# Altium schematic symbol library CPLD_Microchip.SchLib: 7 symbols
Pins are listed as number, name and electrical type; pins without a type are passive.

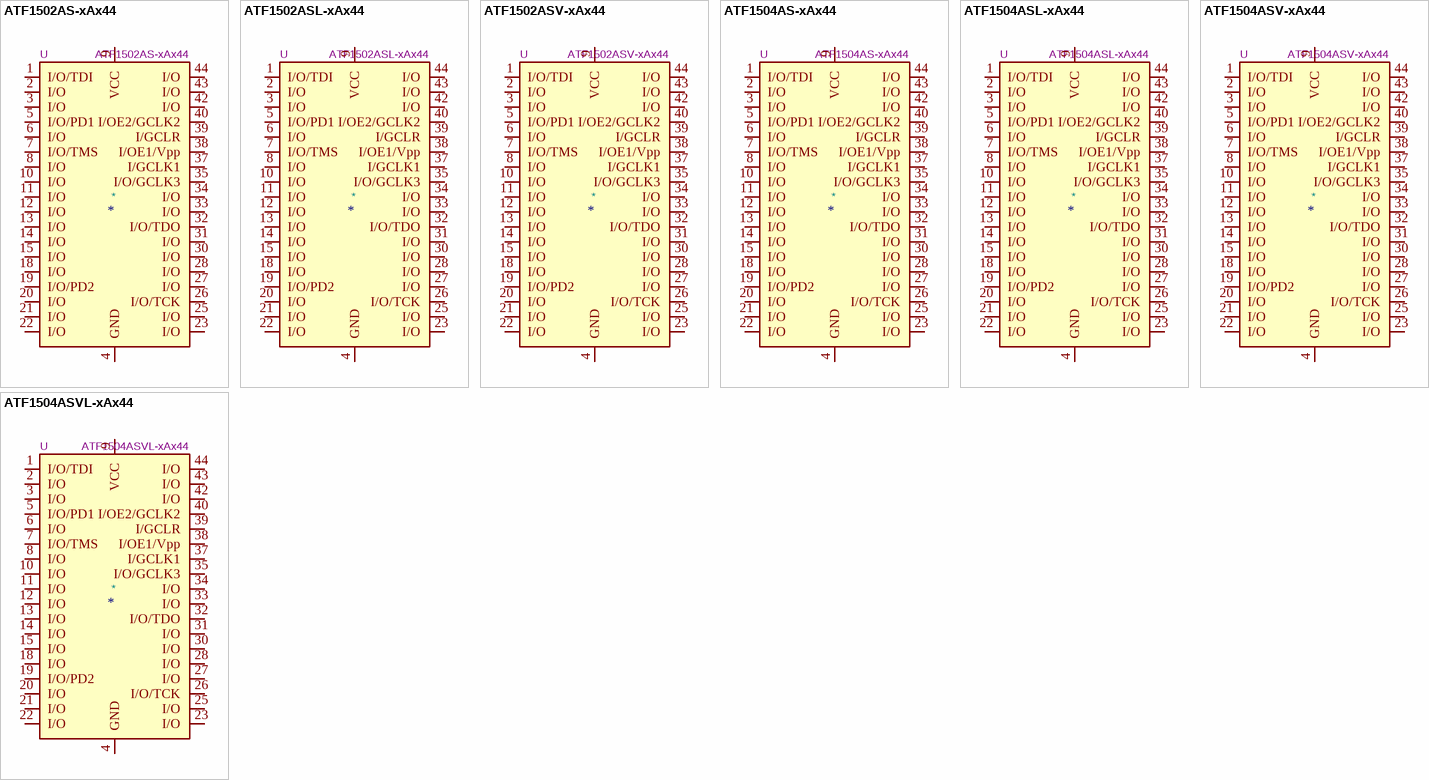
[diagram p0: symbols ATF1502AS-xAx44 to ATF1504ASVL-xAx44]

## ATF1502AS-xAx44
designator *  value ATF1502AS-xAx44  Reference: U
ki_keywords: CPLD; ki_description: Microchip CPLD, 32 Macrocell, 5 V, TQFP-44; ki_fp_filters: TQFP*10x10mm*P0.8mm*; Footprint: Package_QFP:TQFP-44_10x10mm_P0.8mm; Datasheet: http://ww1.microchip.com/downloads/en/DeviceDoc/Atmel-0995-CPLD-ATF1502AS(L)-Datasheet.pdf
pins: 1 I/O/TDI, 2 I/O, 3 I/O, 4 GND, 5 I/O/PD1, 6 I/O, 7 I/O/TMS, 8 I/O, 9 VCC, 10 I/O, 11 I/O, 12 I/O, 13 I/O, 14 I/O, 15 I/O, 16 GND hidden, 17 VCC hidden, 18 I/O, 19 I/O/PD2, 20 I/O, 21 I/O, 22 I/O, 23 I/O, 24 GND hidden, 25 I/O, 26 I/O/TCK, 27 I/O, 28 I/O, 29 VCC hidden, 30 I/O, 31 I/O, 32 I/O/TDO, 33 I/O, 34 I/O, 35 I/O/GCLK3, 36 GND hidden, 37 I/GCLK1, 38 I/OE1/Vpp, 39 I/GCLR, 40 I/OE2/GCLK2, 41 VCC hidden, 42 I/O, 43 I/O, 44 I/O

## ATF1502ASL-xAx44
designator *  value ATF1502ASL-xAx44  Reference: U
ki_keywords: CPLD; ki_description: Microchip CPLD, 32 Macrocell, 5 V, Low Power, TQFP-44; ki_fp_filters: TQFP*10x10mm*P0.8mm*; Footprint: Package_QFP:TQFP-44_10x10mm_P0.8mm; Datasheet: http://ww1.microchip.com/downloads/en/DeviceDoc/Atmel-0995-CPLD-ATF1502AS(L)-Datasheet.pdf
pins: 1 I/O/TDI, 2 I/O, 3 I/O, 4 GND, 5 I/O/PD1, 6 I/O, 7 I/O/TMS, 8 I/O, 9 VCC, 10 I/O, 11 I/O, 12 I/O, 13 I/O, 14 I/O, 15 I/O, 16 GND hidden, 17 VCC hidden, 18 I/O, 19 I/O/PD2, 20 I/O, 21 I/O, 22 I/O, 23 I/O, 24 GND hidden, 25 I/O, 26 I/O/TCK, 27 I/O, 28 I/O, 29 VCC hidden, 30 I/O, 31 I/O, 32 I/O/TDO, 33 I/O, 34 I/O, 35 I/O/GCLK3, 36 GND hidden, 37 I/GCLK1, 38 I/OE1/Vpp, 39 I/GCLR, 40 I/OE2/GCLK2, 41 VCC hidden, 42 I/O, 43 I/O, 44 I/O

## ATF1502ASV-xAx44
designator *  value ATF1502ASV-xAx44  Reference: U
ki_keywords: CPLD; ki_description: Microchip CPLD, 32 Macrocell, 3.3 V, TQFP-44; ki_fp_filters: TQFP*10x10mm*P0.8mm*; Footprint: Package_QFP:TQFP-44_10x10mm_P0.8mm; Datasheet: http://ww1.microchip.com/downloads/en/DeviceDoc/doc1615.pdf
pins: 1 I/O/TDI, 2 I/O, 3 I/O, 4 GND, 5 I/O/PD1, 6 I/O, 7 I/O/TMS, 8 I/O, 9 VCC, 10 I/O, 11 I/O, 12 I/O, 13 I/O, 14 I/O, 15 I/O, 16 GND hidden, 17 VCC hidden, 18 I/O, 19 I/O/PD2, 20 I/O, 21 I/O, 22 I/O, 23 I/O, 24 GND hidden, 25 I/O, 26 I/O/TCK, 27 I/O, 28 I/O, 29 VCC hidden, 30 I/O, 31 I/O, 32 I/O/TDO, 33 I/O, 34 I/O, 35 I/O/GCLK3, 36 GND hidden, 37 I/GCLK1, 38 I/OE1/Vpp, 39 I/GCLR, 40 I/OE2/GCLK2, 41 VCC hidden, 42 I/O, 43 I/O, 44 I/O

## ATF1504AS-xAx44
designator *  value ATF1504AS-xAx44  Reference: U
ki_keywords: CPLD; ki_description: Microchip CPLD, 64 Macrocell, 5 V, TQFP-44; ki_fp_filters: TQFP*10x10mm*P0.8mm*; Footprint: Package_QFP:TQFP-44_10x10mm_P0.8mm; Datasheet: http://ww1.microchip.com/downloads/en/DeviceDoc/Atmel-0950-CPLD-ATF1504AS(L)-Datasheet.pdf
pins: 1 I/O/TDI, 2 I/O, 3 I/O, 4 GND, 5 I/O/PD1, 6 I/O, 7 I/O/TMS, 8 I/O, 9 VCC, 10 I/O, 11 I/O, 12 I/O, 13 I/O, 14 I/O, 15 I/O, 16 GND hidden, 17 VCC hidden, 18 I/O, 19 I/O/PD2, 20 I/O, 21 I/O, 22 I/O, 23 I/O, 24 GND hidden, 25 I/O, 26 I/O/TCK, 27 I/O, 28 I/O, 29 VCC hidden, 30 I/O, 31 I/O, 32 I/O/TDO, 33 I/O, 34 I/O, 35 I/O/GCLK3, 36 GND hidden, 37 I/GCLK1, 38 I/OE1/Vpp, 39 I/GCLR, 40 I/OE2/GCLK2, 41 VCC hidden, 42 I/O, 43 I/O, 44 I/O

## ATF1504ASL-xAx44
designator *  value ATF1504ASL-xAx44  Reference: U
ki_keywords: CPLD; ki_description: Microchip CPLD, 64 Macrocell, 5 V, Low Power, TQFP-44; ki_fp_filters: TQFP*10x10mm*P0.8mm*; Footprint: Package_QFP:TQFP-44_10x10mm_P0.8mm; Datasheet: http://ww1.microchip.com/downloads/en/DeviceDoc/Atmel-0950-CPLD-ATF1504AS(L)-Datasheet.pdf
pins: 1 I/O/TDI, 2 I/O, 3 I/O, 4 GND, 5 I/O/PD1, 6 I/O, 7 I/O/TMS, 8 I/O, 9 VCC, 10 I/O, 11 I/O, 12 I/O, 13 I/O, 14 I/O, 15 I/O, 16 GND hidden, 17 VCC hidden, 18 I/O, 19 I/O/PD2, 20 I/O, 21 I/O, 22 I/O, 23 I/O, 24 GND hidden, 25 I/O, 26 I/O/TCK, 27 I/O, 28 I/O, 29 VCC hidden, 30 I/O, 31 I/O, 32 I/O/TDO, 33 I/O, 34 I/O, 35 I/O/GCLK3, 36 GND hidden, 37 I/GCLK1, 38 I/OE1/Vpp, 39 I/GCLR, 40 I/OE2/GCLK2, 41 VCC hidden, 42 I/O, 43 I/O, 44 I/O

## ATF1504ASV-xAx44
designator *  value ATF1504ASV-xAx44  Reference: U
ki_keywords: CPLD; ki_description: Microchip CPLD, 64 Macrocell, 3.3 V, TQFP-44; ki_fp_filters: TQFP*10x10mm*P0.8mm*; Footprint: Package_QFP:TQFP-44_10x10mm_P0.8mm; Datasheet: http://ww1.microchip.com/downloads/en/DeviceDoc/ATF1504ASV-ATF1504ASVL-Data-Sheet-20006185A.pdf
pins: 1 I/O/TDI, 2 I/O, 3 I/O, 4 GND, 5 I/O/PD1, 6 I/O, 7 I/O/TMS, 8 I/O, 9 VCC, 10 I/O, 11 I/O, 12 I/O, 13 I/O, 14 I/O, 15 I/O, 16 GND hidden, 17 VCC hidden, 18 I/O, 19 I/O/PD2, 20 I/O, 21 I/O, 22 I/O, 23 I/O, 24 GND hidden, 25 I/O, 26 I/O/TCK, 27 I/O, 28 I/O, 29 VCC hidden, 30 I/O, 31 I/O, 32 I/O/TDO, 33 I/O, 34 I/O, 35 I/O/GCLK3, 36 GND hidden, 37 I/GCLK1, 38 I/OE1/Vpp, 39 I/GCLR, 40 I/OE2/GCLK2, 41 VCC hidden, 42 I/O, 43 I/O, 44 I/O

## ATF1504ASVL-xAx44
designator *  value ATF1504ASVL-xAx44  Reference: U
ki_keywords: CPLD; ki_description: Microchip CPLD, 32 Macrocell, 3.3 V, Low Power, TQFP-44; ki_fp_filters: TQFP*10x10mm*P0.8mm*; Footprint: Package_QFP:TQFP-44_10x10mm_P0.8mm; Datasheet: http://ww1.microchip.com/downloads/en/DeviceDoc/ATF1504ASV-ATF1504ASVL-Data-Sheet-20006185A.pdf
pins: 1 I/O/TDI, 2 I/O, 3 I/O, 4 GND, 5 I/O/PD1, 6 I/O, 7 I/O/TMS, 8 I/O, 9 VCC, 10 I/O, 11 I/O, 12 I/O, 13 I/O, 14 I/O, 15 I/O, 16 GND hidden, 17 VCC hidden, 18 I/O, 19 I/O/PD2, 20 I/O, 21 I/O, 22 I/O, 23 I/O, 24 GND hidden, 25 I/O, 26 I/O/TCK, 27 I/O, 28 I/O, 29 VCC hidden, 30 I/O, 31 I/O, 32 I/O/TDO, 33 I/O, 34 I/O, 35 I/O/GCLK3, 36 GND hidden, 37 I/GCLK1, 38 I/OE1/Vpp, 39 I/GCLR, 40 I/OE2/GCLK2, 41 VCC hidden, 42 I/O, 43 I/O, 44 I/O